# EAGLE library part LA6515 (library ic-sanyo)
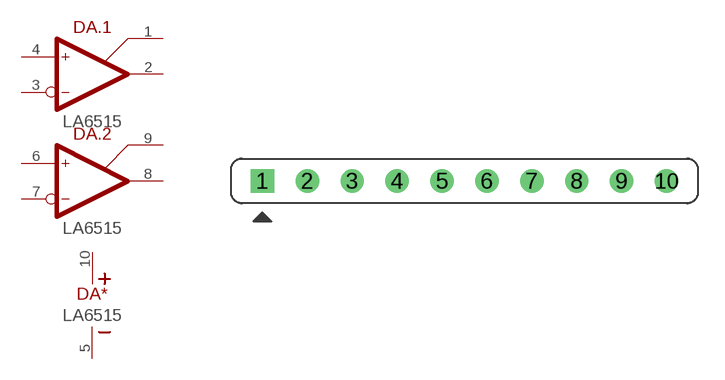
[diagram p0: symbol with the pads of SIL10; footprint SIL10]

Designator prefix DA; gates .1=LA6515 .2=LA6515 *=SUPPLY

## LA6515  [SIL10]
1  .1:SENSE  out
2  .1:OUT  out
3  .1:IN-  in
4  .1:IN+  in
5  *:V-  pwr
6  .2:IN+  in
7  .2:IN-  in
8  .2:OUT  out
9  .2:SENSE  out
10  *:V+  pwr

## Footprint SIL10 (pad centres in mm)
drill 0.813 square: 1 -11.43,0
drill 0.813: 2 -8.89,0; 3 -6.35,0; 4 -3.81,0; 5 -1.27,0; 6 1.27,0; 7 3.81,0; 8 6.35,0; 9 8.89,0; 10 11.43,0